# Altium schematic symbol library tm4cv006lib.SchLib: 203 symbols (part 4 of 5)
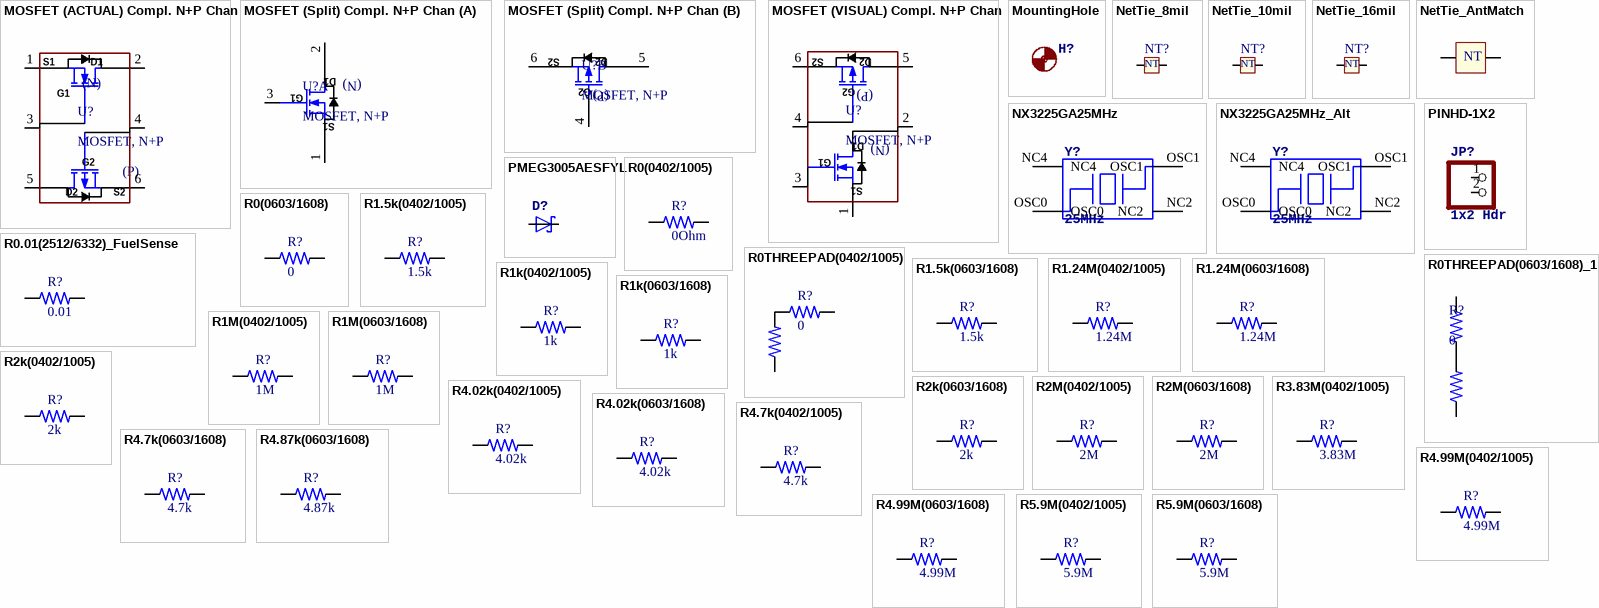
[diagram p8: symbols MOSFET (ACTUAL) Compl. N+P Chan to R5.9M(0603/1608)]

## R1k(0603/1608)
designator R?, comment 1k
1k Resistor; Manufacturer: Yageo; Manufacturer Part Number: RC0603FR-071KL; Power Rating: 100 mW; Resistance: 1 kOhms; Temperature Coefficient: 100 PPM / C; Tolerance: 1 %; Voltage Rating: 75 V; Supplier 1: Mouser; Supplier Part Number 1: 603-RC0603FR-071KL; RoHS: RoHS Compliant; Category: Thick Film Resistors - SMD; Stock 1: 507636; Pricing 1: 1=0.100, 10=0.010, 100=0.003, 1000=0.002, 5000=0.002, 10000=0.001 (USD); Height: 0.45 mm; Length: 1.6 mm; Operating Temperature Range: - 55 C to + 155 C; Package / Case: 0603 (1608 metric); Packaging: Reel; Product: Thick Film Resistors General Purpose; Series: RC; Termination Style: SMD/SMT; Type: General Purpose Chip Resistor Surface Mount; Width: 0.8 mm; Brand: Yageo; Case Code - in: 0603; Case Code - mm: 1608; Product Category: 0603 SMD Chip Resistors; Standard Pack Qty: 5000; RoHS - Mouser: Y; Minimum Order Quantity: 1; Reeling: True; ComponentLink1URL: http://www.mouser.com/ds/2/447/RC0603-272842.pdf; ComponentLink1Description: http://www.mouser.com/ds/2/447/RC0603-272842.pdf
footprint R0603_1608 (Chip Resistor, 2-Leads, Body 1.60x0.80mm, IPC Medium Density)
pins: 1, 2

## R1M(0402/1005)
designator R?, comment 1M
1M Resistor; Manufacturer: KOA Speer; Manufacturer Part Number: RK73H1ETTP1004F; Power Rating: 100 mW (1/10 W); Resistance: 1 MOhms; Temperature Coefficient: 100 PPM / C; Tolerance: 1 %; Voltage Rating: 50 V; Supplier 1: Mouser; Supplier Part Number 1: 660-RK73H1ETTP1004F; RoHS: RoHS Compliant By Exemption; Category: Thick Film Resistors - SMD; Stock 1: 388002; Pricing 1: 1=0.100, 10=0.024, 100=0.006, 1000=0.004, 10000=0.003 (USD); Features: Anti-leaching nickel barrier terminations; Height: 0.35 mm; Length: 1 mm; Operating Temperature Range: - 55 C to + 155 C; Package / Case: 0402 (1005 metric); Packaging: Reel; Product: Thick Film Resistors SMD; Series: RK73H; Termination Style: SMD/SMT; Type: Precision Thick Film Chip Resistor; Width: 0.5 mm; Brand: KOA Speer; Case Code - in: 0402; Case Code - mm: 1005; Maximum Operating Temperature: + 155 C; Minimum Operating Temperature: - 55 C; Standard Pack Qty: 10000; RoHS - Mouser: E; Minimum Order Quantity: 1; Reeling: True; ComponentLink1URL: http://www.mouser.com/ds/2/219/RK73H-5715.pdf; ComponentLink1Description: http://www.mouser.com/ds/2/219/RK73H-5715.pdf
footprint R0402_1005 (Chip Resistor, 2-Leads, Body 1.00x0.50mm, IPC Medium Density)
pins: 1, 2

## R1M(0603/1608)
designator R?, comment 1M
1M Resistor; Manufacturer: Yageo; Manufacturer Part Number: RC0603FR-071ML; Power Rating: 100 mW; Resistance: 1 MOhms; Temperature Coefficient: 100 PPM / C; Tolerance: 1 %; Voltage Rating: 75 V; Supplier 1: Mouser; Supplier Part Number 1: 603-RC0603FR-071ML; RoHS: RoHS Compliant; Category: Thick Film Resistors - SMD; Stock 1: 253110; Pricing 1: 1=0.100, 10=0.010, 100=0.003, 1000=0.002, 5000=0.002, 10000=0.001 (USD); Height: 0.45 mm; Length: 1.6 mm; Operating Temperature Range: - 55 C to + 155 C; Package / Case: 0603 (1608 metric); Packaging: Reel; Product: Thick Film Resistors General Purpose; Series: RC; Termination Style: SMD/SMT; Type: General Purpose Chip Resistor Surface Mount; Width: 0.8 mm; Brand: Yageo; Case Code - in: 0603; Case Code - mm: 1608; Product Category: 0603 SMD Chip Resistors; Standard Pack Qty: 5000; RoHS - Mouser: Y; Minimum Order Quantity: 1; Reeling: True; ComponentLink1URL: http://www.mouser.com/ds/2/447/RC0603-272842.pdf; ComponentLink1Description: http://www.mouser.com/ds/2/447/RC0603-272842.pdf
footprint R0603_1608 (Chip Resistor, 2-Leads, Body 1.60x0.80mm, IPC Medium Density)
pins: 1, 2

## R2k(0402/1005)
designator R?, comment 2k
2k Resistor; Manufacturer: KOA Speer; Manufacturer Part Number: RK73H1ETTP2001F; Power Rating: 100 mW (1/10 W); Resistance: 2 kOhms; Temperature Coefficient: 100 PPM / C; Tolerance: 1 %; Voltage Rating: 50 V; Supplier 1: Mouser; Supplier Part Number 1: 660-RK73H1ETTP2001F; RoHS: RoHS Compliant By Exemption; Category: Thick Film Resistors - SMD; Stock 1: 359804; Pricing 1: 1=0.100, 10=0.024, 100=0.006, 1000=0.004, 10000=0.003 (USD); Features: Anti-leaching nickel barrier terminations; Height: 0.35 mm; Length: 1 mm; Operating Temperature Range: - 55 C to + 155 C; Package / Case: 0402 (1005 metric); Packaging: Reel; Product: Thick Film Resistors SMD; Series: RK73H; Termination Style: SMD/SMT; Type: Precision Thick Film Chip Resistor; Width: 0.5 mm; Brand: KOA Speer; Case Code - in: 0402; Case Code - mm: 1005; Maximum Operating Temperature: + 155 C; Minimum Operating Temperature: - 55 C; Standard Pack Qty: 10000; RoHS - Mouser: E; Minimum Order Quantity: 1; Reeling: True; ComponentLink1URL: http://www.mouser.com/ds/2/219/RK73H-5715.pdf; ComponentLink1Description: http://www.mouser.com/ds/2/219/RK73H-5715.pdf
footprint R0402_1005 (Chip Resistor, 2-Leads, Body 1.00x0.50mm, IPC Medium Density)
pins: 1, 2

## R2k(0603/1608)
designator R?, comment 2k
2k Resistor; Manufacturer: Yageo; Manufacturer Part Number: RC0603FR-072KL; Power Rating: 100 mW; Resistance: 2 kOhms; Temperature Coefficient: 100 PPM / C; Tolerance: 1 %; Voltage Rating: 75 V; Supplier 1: Mouser; Supplier Part Number 1: 603-RC0603FR-072KL; RoHS: RoHS Compliant; Category: Thick Film Resistors - SMD; Stock 1: 250769; Pricing 1: 1=0.100, 10=0.010, 100=0.003, 1000=0.002, 5000=0.002, 10000=0.001 (USD); Height: 0.45 mm; Length: 1.6 mm; Operating Temperature Range: - 55 C to + 155 C; Package / Case: 0603 (1608 metric); Packaging: Reel; Product: Thick Film Resistors General Purpose; Series: RC; Termination Style: SMD/SMT; Type: General Purpose Chip Resistor Surface Mount; Width: 0.8 mm; Brand: Yageo; Case Code - in: 0603; Case Code - mm: 1608; Product Category: 0603 SMD Chip Resistors; Standard Pack Qty: 5000; RoHS - Mouser: Y; Minimum Order Quantity: 1; Reeling: True; ComponentLink1URL: http://www.mouser.com/ds/2/447/RC0603-272842.pdf; ComponentLink1Description: http://www.mouser.com/ds/2/447/RC0603-272842.pdf
footprint R0603_1608 (Chip Resistor, 2-Leads, Body 1.60x0.80mm, IPC Medium Density)
pins: 1, 2

## R2M(0402/1005)
designator R?, comment 2M
2M Resistor; Manufacturer: Yageo; Manufacturer Part Number: RC0402FR-072ML; Power Rating: 62.5 mW (1/16 W); Resistance: 2 MOhms; Temperature Coefficient: 100 PPM / C; Tolerance: 1 %; Voltage Rating: 50 V; Supplier 1: Mouser; Supplier Part Number 1: 603-RC0402FR-072ML; RoHS: RoHS Compliant; Category: Thick Film Resistors - SMD; Stock 1: 72909; Pricing 1: 1=0.100, 10=0.010, 100=0.003, 1000=0.002, 10000=0.001 (USD); Height: 0.35 mm; Length: 1 mm; Operating Temperature Range: - 55 C to + 155 C; Package / Case: 0402 (1005 metric); Packaging: Reel; Product: Thick Film Resistors General Purpose; Series: RC; Termination Style: SMD/SMT; Type: General Purpose Chip Resistor Surface Mount; Width: 0.5 mm; Brand: Yageo; Case Code - in: 0402; Case Code - mm: 1005; Standard Pack Qty: 10000; RoHS - Mouser: Y; Minimum Order Quantity: 1; Reeling: True; ComponentLink1URL: http://www.mouser.com/ds/2/447/PYu-RC0402_51_RoHS_L_6_r-8721.pdf; ComponentLink1Description: http://www.mouser.com/ds/2/447/PYu-RC0402_51_RoHS_L_6_r-8721.pdf
footprint R0402_1005 (Chip Resistor, 2-Leads, Body 1.00x0.50mm, IPC Medium Density)
pins: 1, 2

## R2M(0603/1608)
designator R?, comment 2M
2M Resistor; Manufacturer: Yageo; Manufacturer Part Number: RC0603FR-072ML; Power Rating: 100 mW; Resistance: 2 MOhms; Temperature Coefficient: 100 PPM / C; Tolerance: 1 %; Voltage Rating: 75 V; Supplier 1: Mouser; RoHS: RoHS Compliant By Exemption; Category: Thick Film Resistors - SMD; Stock 1: 866; Pricing 1: 1=0.100, 10=0.010, 100=0.003, 1000=0.002, 5000=0.002, 10000=0.001 (USD); Height: 0.45 mm; Length: 1.6 mm; Operating Temperature Range: - 55 C to + 155 C; Package / Case: 0603 (1608 metric); Packaging: Reel; Product: Thick Film Resistors General Purpose; Series: RC; Termination Style: SMD/SMT; Type: General Purpose Chip Resistor Surface Mount; Width: 0.8 mm; Brand: Yageo; Case Code - in: 0603; Case Code - mm: 1608; Product Category: 0603 SMD Chip Resistors; RoHS - Mouser: E; Minimum Order Quantity: 1; Reeling: True; ComponentLink1URL: http://www.mouser.com/ds/2/447/RC0603-272842.pdf; ComponentLink1Description: http://www.mouser.com/ds/2/447/RC0603-272842.pdf; Supplier Part Number 1: 603-RC0603FR-072ML
footprint R0603_1608 (Chip Resistor, 2-Leads, Body 1.60x0.80mm, IPC Medium Density)
pins: 1, 2

## R3.83M(0402/1005)
designator R?, comment 3.83M
3.83M Resistor; Manufacturer: Vishay; Manufacturer Part Number: CRCW04023M83FKED; Power Rating: 63 mW; Resistance: 3.83 MOhms; Temperature Coefficient: 100 PPM / K; Tolerance: 1 %; Voltage Rating: 50 V; Supplier 1: Mouser; Supplier Part Number 1: 71-CRCW04023M83FKED; RoHS: RoHS Compliant By Exemption; Category: Thick Film Resistors - SMD; Stock 1: 20381; Pricing 1: 1=0.100, 10=0.045, 100=0.026, 1000=0.018, 10000=0.006, 30000=0.005, 50000=0.004, 250000=0.003 (USD); Features: Metal glaze on high quality ceramic; Height: 0.35 mm; Length: 1 mm; Operating Temperature Range: - 55 C to + 155 C; Package / Case: 0402 (1005 metric); Packaging: Reel; Product: Thick Film Resistors SMD; Series: CRCW e3; Termination Style: SMD/SMT; Width: 0.5 mm; Brand: Vishay; Case Code - in: 0402; Case Code - mm: 1005; Standard Pack Qty: 10000; RoHS - Mouser: E; Minimum Order Quantity: 1; Reeling: True; ComponentLink1URL: http://www.mouser.com/ds/2/427/dcrcwe3-109170.pdf; ComponentLink1Description: http://www.mouser.com/ds/2/427/dcrcwe3-109170.pdf
footprint R0402_1005 (Chip Resistor, 2-Leads, Body 1.00x0.50mm, IPC Medium Density)
pins: 1, 2

## R4.02k(0402/1005)
designator R?, comment 4.02k
4.02 Resistor; Manufacturer: Panasonic; Manufacturer Part Number: ERJ-2RKF4021X; Power Rating: 100 mW; Resistance: 4.02 kOhms; Temperature Coefficient: 100 PPM / C; Tolerance: 1 %; Voltage Rating: 50 V; Qualification: AEC-Q200; RoHS: RoHS Compliant By Exemption; Category: Thick Film Resistors - SMD; Height: 0.35 mm; Length: 1 mm; Operating Temperature Range: - 55 C to + 155 C; Package / Case: 0402 (1005 metric); Packaging: Reel; Product: Thick Film Resistors SMD; Series: ERJ; Termination Style: SMD/SMT; Type: Precision Thick Film Resistors SMD; Width: 0.5 mm; Brand: Panasonic; Case Code - in: 0402; Case Code - mm: 1005; Standard Pack Qty: 10000; RoHS - Mouser: E; Minimum Order Quantity: 1; Reeling: True; ComponentLink1URL: http://www.mouser.com/ds/2/315/AOA0000C86-911473.pdf; ComponentLink1Description: http://www.mouser.com/ds/2/315/AOA0000C86-911473.pdf; Supplier 1: Mouser; Supplier Part Number 1: 667-ERJ-2RKF4021X; Stock 1: 121269; Pricing 1: 1=0.100, 10=0.015, 100=0.006, 1000=0.004, 5000=0.003, 10000=0.002 (USD)
footprint R0402_1005 (Chip Resistor, 2-Leads, Body 1.00x0.50mm, IPC Medium Density)
pins: 1, 2

## R4.02k(0603/1608)
designator R?, comment 4.02k
4.02 Resistor; Manufacturer: Yageo; Manufacturer Part Number: RC0603FR-074K02L; Power Rating: 100 mW; Resistance: 4.02 kOhms; Temperature Coefficient: 100 PPM / C; Tolerance: 1 %; Voltage Rating: 75 V; Supplier 1: Mouser; Supplier Part Number 1: 603-RC0603FR-074K02L; RoHS: RoHS Compliant; Category: Thick Film Resistors - SMD; Stock 1: 42684; Pricing 1: 1=0.100, 10=0.010, 100=0.003, 1000=0.002, 5000=0.002, 10000=0.001 (USD); Height: 0.45 mm; Length: 1.6 mm; Operating Temperature Range: - 55 C to + 155 C; Package / Case: 0603 (1608 metric); Packaging: Reel; Product: Thick Film Resistors General Purpose; Series: RC; Termination Style: SMD/SMT; Type: General Purpose Chip Resistor Surface Mount; Width: 0.8 mm; Brand: Yageo; Case Code - in: 0603; Case Code - mm: 1608; Product Category: 1206 SMD Chip Resistors; RoHS - Mouser: Y; Minimum Order Quantity: 1; Reeling: True; ComponentLink1URL: http://www.mouser.com/ds/2/447/RC0603-272842.pdf; ComponentLink1Description: http://www.mouser.com/ds/2/447/RC0603-272842.pdf
footprint R0603_1608 (Chip Resistor, 2-Leads, Body 1.60x0.80mm, IPC Medium Density)
pins: 1, 2

## R4.7k(0402/1005)
designator R?, comment 4.7k
4.7k Resistor; Manufacturer: Panasonic; Manufacturer Part Number: ERJ-2RKF4701X; Power Rating: 100 mW; Resistance: 4.7 kOhms; Temperature Coefficient: 100 PPM / C; Tolerance: 1 %; Voltage Rating: 50 V; Qualification: AEC-Q200; Supplier 1: Mouser; Supplier Part Number 1: 667-ERJ-2RKF4701X; RoHS: RoHS Compliant By Exemption; Category: Thick Film Resistors - SMD; Stock 1: 71515; Pricing 1: 1=0.100, 10=0.015, 100=0.006, 1000=0.004, 5000=0.003, 10000=0.002 (USD); Height: 0.35 mm; Length: 1 mm; Operating Temperature Range: - 55 C to + 155 C; Package / Case: 0402 (1005 metric); Packaging: Reel; Product: Thick Film Resistors SMD; Series: ERJ; Termination Style: SMD/SMT; Type: Precision Thick Film Resistors SMD; Width: 0.5 mm; Brand: Panasonic; Case Code - in: 0402; Case Code - mm: 1005; Standard Pack Qty: 10000; RoHS - Mouser: E; Minimum Order Quantity: 1; Reeling: True; ComponentLink1URL: http://www.mouser.com/ds/2/315/AOA0000C86-911473.pdf; ComponentLink1Description: http://www.mouser.com/ds/2/315/AOA0000C86-911473.pdf; Supplier 2: Digi-Key; Supplier Part Number 2: P4.70KLCT-ND
footprint R0402_1005 (Chip Resistor, 2-Leads, Body 1.00x0.50mm, IPC Medium Density)
pins: 1, 2

## R4.7k(0603/1608)
designator R?, comment 4.7k
4.7k Resistor; Manufacturer: Yageo; Manufacturer Part Number: RC0603FR-074K7L; Power Rating: 100 mW; Resistance: 4.7 kOhms; Temperature Coefficient: 100 PPM / C; Tolerance: 1 %; Voltage Rating: 75 V; Supplier 1: Mouser; Supplier Part Number 1: 603-RC0603FR-074K7L; RoHS: RoHS Compliant; Category: Thick Film Resistors - SMD; Stock 1: 542464; Pricing 1: 1=0.100, 10=0.010, 100=0.003, 1000=0.002, 5000=0.002, 10000=0.001 (USD); Height: 0.45 mm; Length: 1.6 mm; Operating Temperature Range: - 55 C to + 155 C; Package / Case: 0603 (1608 metric); Packaging: Reel; Product: Thick Film Resistors General Purpose; Series: RC; Termination Style: SMD/SMT; Type: General Purpose Chip Resistor Surface Mount; Width: 0.8 mm; Brand: Yageo; Case Code - in: 0603; Case Code - mm: 1608; Product Category: 0603 SMD Chip Resistors; Standard Pack Qty: 5000; RoHS - Mouser: Y; Minimum Order Quantity: 1; Reeling: True; ComponentLink1URL: http://www.mouser.com/ds/2/447/RC0603-272842.pdf; ComponentLink1Description: http://www.mouser.com/ds/2/447/RC0603-272842.pdf
footprint R0603_1608 (Chip Resistor, 2-Leads, Body 1.60x0.80mm, IPC Medium Density)
pins: 1, 2

## R4.87k(0603/1608)
designator R?, comment 4.87k
4.87k Resistor; Manufacturer: Yageo; Manufacturer Part Number: RC0603FR-074K87L; Power Rating: 100 mW; Resistance: 4.87 kOhms; Temperature Coefficient: 100 PPM / C; Tolerance: 1 %; Voltage Rating: 75 V; Supplier 1: Mouser; Supplier Part Number 1: 603-RC0603FR-074K87L; RoHS: RoHS Compliant; Category: Thick Film Resistors - SMD; Stock 1: 38273; Pricing 1: 1=0.100, 10=0.010, 100=0.003, 1000=0.002, 5000=0.002, 10000=0.001 (USD); Height: 0.45 mm; Length: 1.6 mm; Operating Temperature Range: - 55 C to + 155 C; Package / Case: 0603 (1608 metric); Packaging: Reel; Product: Thick Film Resistors General Purpose; Series: RC; Termination Style: SMD/SMT; Type: General Purpose Chip Resistor Surface Mount; Width: 0.8 mm; Brand: Yageo; Case Code - in: 0603; Case Code - mm: 1608; RoHS - Mouser: Y; Minimum Order Quantity: 1; Reeling: True; ComponentLink1URL: http://www.mouser.com/ds/2/447/RC0603-272842.pdf; ComponentLink1Description: http://www.mouser.com/ds/2/447/RC0603-272842.pdf
footprint R0603_1608 (Chip Resistor, 2-Leads, Body 1.60x0.80mm, IPC Medium Density)
pins: 1, 2

## R4.99M(0402/1005)
designator R?, comment 4.99M
4.99M Resistor; Manufacturer: Yageo; Manufacturer Part Number: RC0402FR-074M99L; Power Rating: 62.5 mW (1/16 W); Resistance: 4.99 MOhms; Temperature Coefficient: 100 PPM / C; Tolerance: 1 %; Voltage Rating: 50 V; Supplier 1: Mouser; Supplier Part Number 1: 603-RC0402FR-074M99L; RoHS: RoHS Compliant; Category: Thick Film Resistors - SMD; Stock 1: 23985; Pricing 1: 1=0.100, 10=0.010, 100=0.003, 1000=0.002, 10000=0.001 (USD); Height: 0.35 mm; Length: 1 mm; Operating Temperature Range: - 55 C to + 155 C; Package / Case: 0402 (1005 metric); Packaging: Reel; Product: Thick Film Resistors General Purpose; Series: RC; Termination Style: SMD/SMT; Type: General Purpose Chip Resistor Surface Mount; Width: 0.5 mm; Brand: Yageo; Case Code - in: 0402; Case Code - mm: 1005; Standard Pack Qty: 10000; RoHS - Mouser: Y; Minimum Order Quantity: 1; Reeling: True; ComponentLink1URL: http://www.mouser.com/ds/2/447/PYu-RC0402_51_RoHS_L_6_r-8721.pdf; ComponentLink1Description: http://www.mouser.com/ds/2/447/PYu-RC0402_51_RoHS_L_6_r-8721.pdf
footprint R0402_1005 (Chip Resistor, 2-Leads, Body 1.00x0.50mm, IPC Medium Density)
pins: 1, 2

## R4.99M(0603/1608)
designator R?, comment 4.99M
4.99M Resistor; Manufacturer: Yageo; Manufacturer Part Number: RC0603FR-074M99L; Power Rating: 100 mW; Resistance: 4.99 MOhms; Temperature Coefficient: 100 PPM / C; Tolerance: 1 %; Voltage Rating: 75 V; Supplier 1: Mouser; RoHS: RoHS Compliant; Category: Thick Film Resistors - SMD; Stock 1: 13735; Pricing 1: 1=0.100, 10=0.010, 100=0.003, 1000=0.002, 5000=0.002, 10000=0.001 (USD); Height: 0.45 mm; Length: 1.6 mm; Operating Temperature Range: - 55 C to + 155 C; Package / Case: 0603 (1608 metric); Packaging: Reel; Product: Thick Film Resistors General Purpose; Series: RC; Termination Style: SMD/SMT; Type: General Purpose Chip Resistor Surface Mount; Width: 0.8 mm; Brand: Yageo; Case Code - in: 0603; Case Code - mm: 1608; Product Category: 0603 SMD Chip Resistors; Standard Pack Qty: 5000; RoHS - Mouser: Y; Minimum Order Quantity: 1; Reeling: True; ComponentLink1URL: http://www.mouser.com/ds/2/447/RC0603-272842.pdf; ComponentLink1Description: http://www.mouser.com/ds/2/447/RC0603-272842.pdf; Supplier Part Number 1: 603-RC0603FR-074M99L
footprint R0603_1608 (Chip Resistor, 2-Leads, Body 1.60x0.80mm, IPC Medium Density)
pins: 1, 2

## R5.9M(0402/1005)
designator R?, comment 5.9M
5.9M Resistor; Manufacturer: Vishay / Dale; Manufacturer Part Number: CRCW04025M90FKED; Power Rating: 63 mW; Resistance: 5.9 MOhms; Temperature Coefficient: 100 PPM / K; Tolerance: 1 %; Voltage Rating: 50 V; Supplier 1: Mouser; Supplier Part Number 1: 71-CRCW04025M90FKED; RoHS: RoHS Compliant By Exemption; Category: Thick Film Resistors - SMD; Stock 1: 9573; Pricing 1: 1=0.100, 10=0.044, 100=0.021, 1000=0.015, 10000=0.005, 30000=0.004, 50000=0.003 (USD); Features: Metal glaze on high quality ceramic; Height: 0.35 mm; Length: 1 mm; Operating Temperature Range: - 55 C to + 155 C; Package / Case: 0402 (1005 metric); Packaging: Reel; Product: Thick Film Resistors SMD; Series: CRCW; Termination Style: SMD/SMT; Width: 0.5 mm; Brand: Vishay / Dale; Case Code - in: 0402; Case Code - mm: 1005; Standard Pack Qty: 10000; RoHS - Mouser: E; Minimum Order Quantity: 1; Reeling: True; ComponentLink1URL: http://www.mouser.com/ds/2/427/dcrcwe3-109170.pdf; ComponentLink1Description: http://www.mouser.com/ds/2/427/dcrcwe3-109170.pdf
footprint R0402_1005 (Chip Resistor, 2-Leads, Body 1.00x0.50mm, IPC Medium Density)
pins: 1, 2

## R5.9M(0603/1608)
designator R?, comment 5.9M
5.9M Resistor; Manufacturer: Vishay / Dale; Manufacturer Part Number: CRCW06035M90FKEA; Power Rating: 100 mW; Resistance: 5.9 MOhms; Temperature Coefficient: 100 PPM / K; Tolerance: 1 %; Voltage Rating: 75 V; Supplier 1: Mouser; RoHS: RoHS Compliant By Exemption; Category: Thick Film Resistors - SMD; Stock 1: 13186; Pricing 1: 1=0.100, 10=0.044, 100=0.026, 500=0.021, 1000=0.018, 5000=0.006, 25000=0.005, 50000=0.004 (USD); Height: 0.45 mm; Length: 1.55 mm; Operating Temperature Range: - 55 C to + 155 C; Package / Case: 0603 (1608 metric); Packaging: Reel; Product: Thick Film Resistors SMD; Series: CRCW; Termination Style: SMD/SMT; Width: 0.85 mm; Brand: Vishay / Dale; Case Code - in: 0603; Case Code - mm: 1608; Product Category: 0603 Thick Film Chip Resistors; RoHS - Mouser: E; Minimum Order Quantity: 1; Reeling: True; ComponentLink1URL: http://www.mouser.com/ds/2/427/dcrcwe3-109170.pdf; ComponentLink1Description: http://www.mouser.com/ds/2/427/dcrcwe3-109170.pdf; Supplier Part Number 1: 71-CRCW06035M90FKEA
footprint R0603_1608 (Chip Resistor, 2-Leads, Body 1.60x0.80mm, IPC Medium Density)
pins: 1, 2

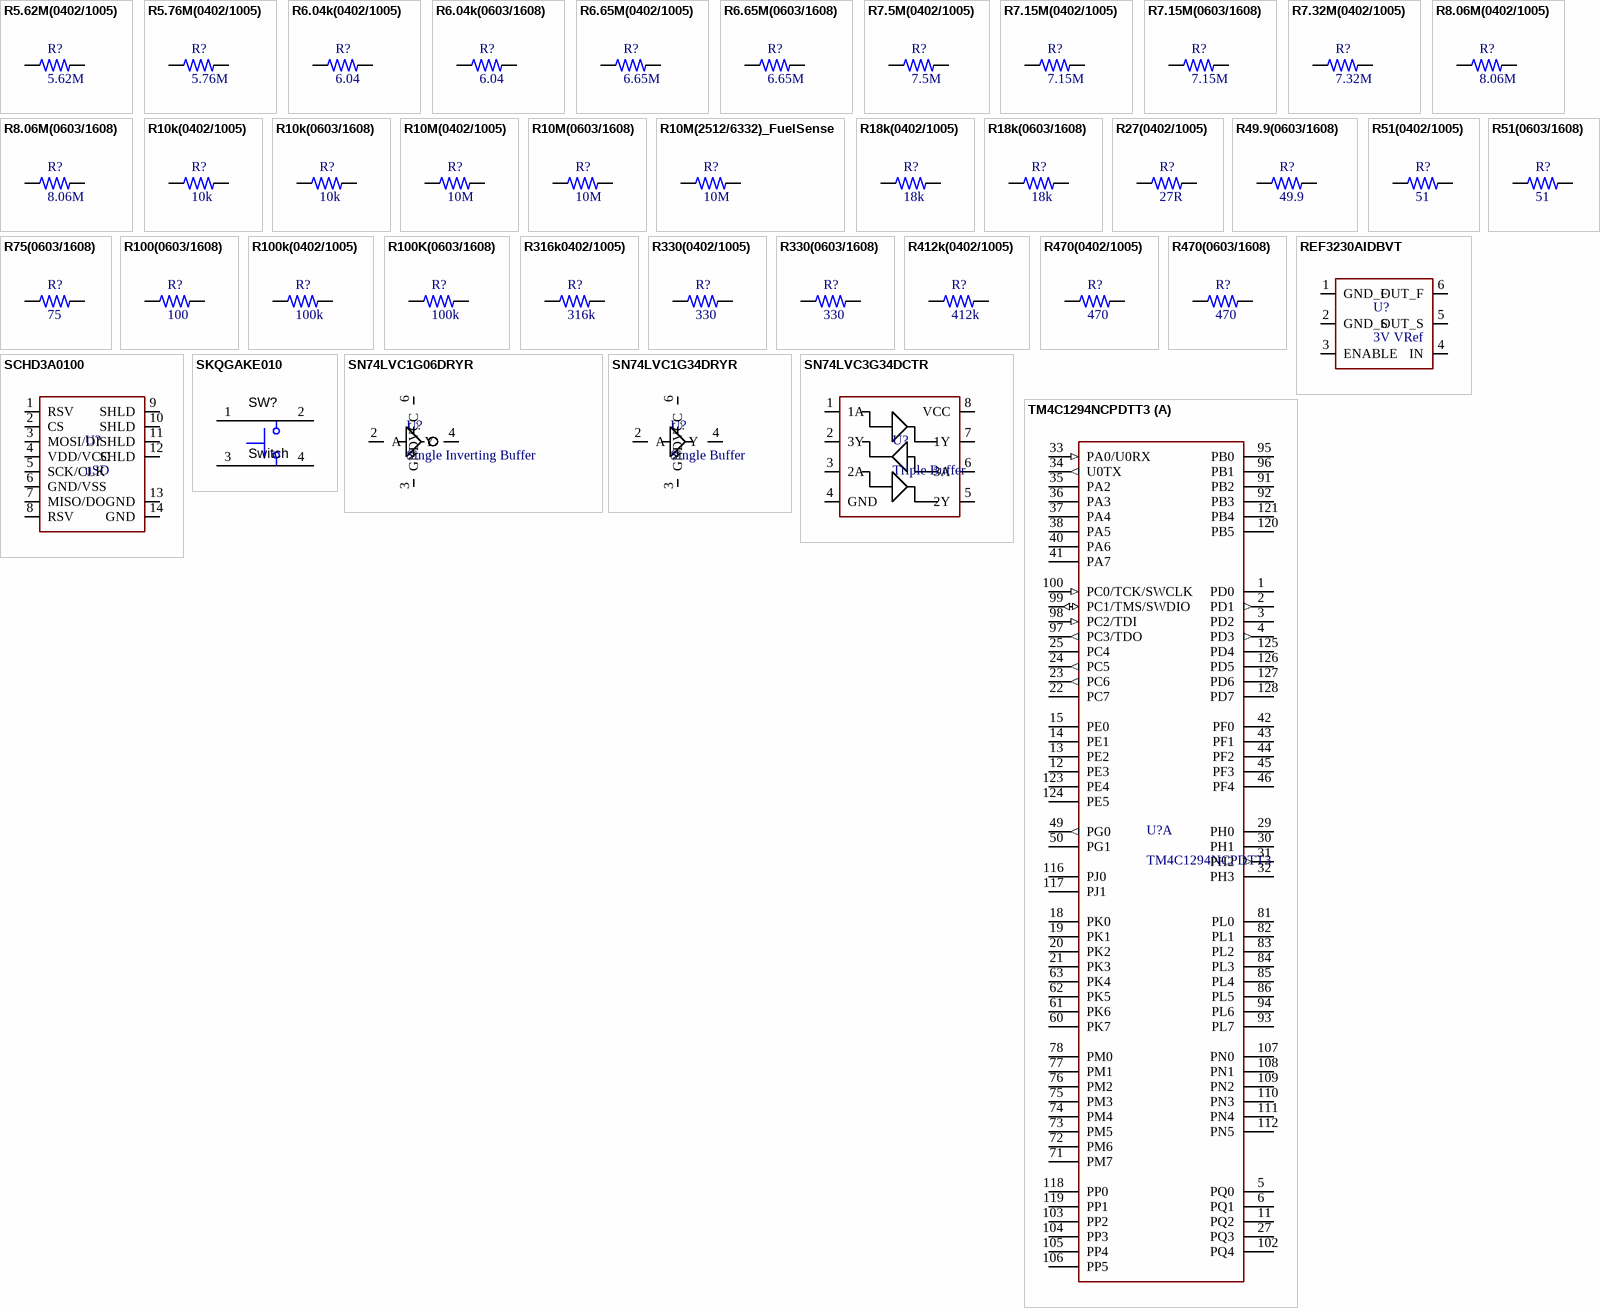
[diagram p4: symbols R5.62M(0402/1005) to TM4C1294NCPDTT3]

## R5.62M(0402/1005)
designator R?, comment 5.62M
5.62M Resistor; Manufacturer: Vishay; Manufacturer Part Number: CRCW04025M62FKED; Power Rating: 63 mW; Resistance: 5.62 MOhms; Temperature Coefficient: 100 PPM / K; Tolerance: 1 %; Voltage Rating: 50 V; Supplier 1: Mouser; Supplier Part Number 1: 71-CRCW04025M62FKED; RoHS: RoHS Compliant By Exemption; Category: Thick Film Resistors - SMD; Stock 1: 8126; Pricing 1: 1=0.100, 10=0.044, 100=0.021, 1000=0.015, 10000=0.009, 30000=0.003 (USD); Features: Metal glaze on high quality ceramic; Height: 0.35 mm; Length: 1 mm; Operating Temperature Range: - 55 C to + 155 C; Package / Case: 0402 (1005 metric); Packaging: Reel; Product: Thick Film Resistors SMD; Series: CRCW e3; Termination Style: SMD/SMT; Width: 0.5 mm; Brand: Vishay; Case Code - in: 0402; Case Code - mm: 1005; Standard Pack Qty: 10000; RoHS - Mouser: E; Minimum Order Quantity: 1; Reeling: True; ComponentLink1URL: http://www.mouser.com/ds/2/427/dcrcwe3-109170.pdf; ComponentLink1Description: http://www.mouser.com/ds/2/427/dcrcwe3-109170.pdf
footprint R0402_1005 (Chip Resistor, 2-Leads, Body 1.00x0.50mm, IPC Medium Density)
pins: 1, 2

## R5.76M(0402/1005)
designator R?, comment 5.76M
5.76M Resistor; Manufacturer: Vishay; Manufacturer Part Number: CRCW04025M76FKED; Power Rating: 63 mW; Resistance: 5.76 MOhms; Temperature Coefficient: 100 PPM / K; Tolerance: 1 %; Voltage Rating: 50 V; Supplier 1: Mouser; Supplier Part Number 1: 71-CRCW04025M76FKED; RoHS: RoHS Compliant By Exemption; Category: Thick Film Resistors - SMD; Stock 1: 24576; Pricing 1: 1=0.100, 10=0.044, 100=0.021, 1000=0.015, 10000=0.005, 30000=0.004, 50000=0.003 (USD); Features: Metal glaze on high quality ceramic; Height: 0.35 mm; Length: 1 mm; Operating Temperature Range: - 55 C to + 155 C; Package / Case: 0402 (1005 metric); Packaging: Reel; Product: Thick Film Resistors SMD; Series: CRCW e3; Termination Style: SMD/SMT; Width: 0.5 mm; Brand: Vishay; Case Code - in: 0402; Case Code - mm: 1005; Standard Pack Qty: 10000; RoHS - Mouser: E; Minimum Order Quantity: 1; Reeling: True; ComponentLink1URL: http://www.mouser.com/ds/2/427/dcrcwe3-109170.pdf; ComponentLink1Description: http://www.mouser.com/ds/2/427/dcrcwe3-109170.pdf
footprint R0402_1005 (Chip Resistor, 2-Leads, Body 1.00x0.50mm, IPC Medium Density)
pins: 1, 2

## R6.04k(0402/1005)
designator R?, comment 6.04
6.04k Resistor; Manufacturer: Panasonic; Manufacturer Part Number: ERJ-2RKF6041X; Power Rating: 100 mW; Resistance: 6.04 kOhms; Temperature Coefficient: 100 PPM / C; Tolerance: 1 %; Voltage Rating: 50 V; Qualification: AEC-Q200; RoHS: RoHS Compliant By Exemption; Category: Thick Film Resistors - SMD; Height: 0.35 mm; Length: 1 mm; Operating Temperature Range: - 55 C to + 155 C; Package / Case: 0402 (1005 metric); Packaging: Reel; Product: Thick Film Resistors SMD; Series: ERJ; Termination Style: SMD/SMT; Type: Precision Thick Film Resistors SMD; Width: 0.5 mm; Brand: Panasonic; Case Code - in: 0402; Case Code - mm: 1005; Standard Pack Qty: 10000; RoHS - Mouser: E; Minimum Order Quantity: 1; Reeling: True; ComponentLink1URL: http://www.mouser.com/ds/2/315/AOA0000C86-911473.pdf; ComponentLink1Description: http://www.mouser.com/ds/2/315/AOA0000C86-911473.pdf; Supplier 1: Mouser; Supplier Part Number 1: 667-ERJ-2RKF6041X; Stock 1: 67846; Pricing 1: 1=0.100, 10=0.015, 100=0.006, 1000=0.004, 5000=0.003, 10000=0.002 (USD)
footprint R0402_1005 (Chip Resistor, 2-Leads, Body 1.00x0.50mm, IPC Medium Density)
pins: 1, 2

## R6.04k(0603/1608)
designator R?, comment 6.04
6.04k Resistor; Manufacturer: Yageo; Manufacturer Part Number: RC0603FR-076K04L; Power Rating: 100 mW; Resistance: 6.04 kOhms; Temperature Coefficient: 100 PPM / C; Tolerance: 1 %; Voltage Rating: 75 V; Supplier 1: Mouser; Supplier Part Number 1: 603-RC0603FR-076K04L; RoHS: RoHS Compliant; Category: Thick Film Resistors - SMD; Stock 1: 76865; Pricing 1: 1=0.100, 10=0.010, 100=0.003, 1000=0.002, 5000=0.002, 10000=0.001 (USD); Height: 0.45 mm; Length: 1.6 mm; Operating Temperature Range: - 55 C to + 155 C; Package / Case: 0603 (1608 metric); Packaging: Reel; Product: Thick Film Resistors General Purpose; Series: RC; Termination Style: SMD/SMT; Type: General Purpose Chip Resistor Surface Mount; Width: 0.8 mm; Brand: Yageo; Case Code - in: 0603; Case Code - mm: 1608; Product Category: 0603 SMD Chip Resistors; Standard Pack Qty: 5000; RoHS - Mouser: Y; Minimum Order Quantity: 1; Reeling: True; ComponentLink1URL: http://www.mouser.com/ds/2/447/RC0603-272842.pdf; ComponentLink1Description: http://www.mouser.com/ds/2/447/RC0603-272842.pdf
footprint R0603_1608 (Chip Resistor, 2-Leads, Body 1.60x0.80mm, IPC Medium Density)
pins: 1, 2

## R6.65M(0402/1005)
designator R?, comment 6.65M
6.65M Resistor; Manufacturer: Vishay / Dale; Manufacturer Part Number: CRCW04026M65FKED; Power Rating: 63 mW; Resistance: 6.65 MOhms; Temperature Coefficient: 100 PPM / K; Tolerance: 1 %; Voltage Rating: 50 V; Supplier 1: Mouser; Supplier Part Number 1: 71-CRCW04026M65FKED; RoHS: RoHS Compliant By Exemption; Category: Thick Film Resistors - SMD; Stock 1: 27940; Pricing 1: 1=0.100, 10=0.051, 100=0.024, 1000=0.017, 10000=0.006, 30000=0.004, 50000=0.003 (USD); Features: Metal glaze on high quality ceramic; Height: 0.35 mm; Length: 1 mm; Operating Temperature Range: - 55 C to + 155 C; Package / Case: 0402 (1005 metric); Packaging: Reel; Product: Thick Film Resistors SMD; Series: CRCW; Termination Style: SMD/SMT; Width: 0.5 mm; Brand: Vishay / Dale; Case Code - in: 0402; Case Code - mm: 1005; Standard Pack Qty: 10000; RoHS - Mouser: E; Minimum Order Quantity: 1; Reeling: True; ComponentLink1URL: http://www.mouser.com/ds/2/427/dcrcwe3-109170.pdf; ComponentLink1Description: http://www.mouser.com/ds/2/427/dcrcwe3-109170.pdf
footprint R0402_1005 (Chip Resistor, 2-Leads, Body 1.00x0.50mm, IPC Medium Density)
pins: 1, 2

## R6.65M(0603/1608)
designator R?, comment 6.65M
6.65M Resistor; Manufacturer: KOA Speer; Manufacturer Part Number: RK73H1JTTDD6654F; Power Rating: 100 mW; Resistance: 6.65 MOhms; Temperature Coefficient: 200 PPM / C; Tolerance: 1 %; Voltage Rating: 50 V; Supplier 1: Mouser; RoHS: RoHS Compliant By Exemption; Category: Thick Film Resistors - SMD; Stock 1: 28575; Pricing 1: 1=0.100, 10=0.015, 100=0.008, 500=0.006, 1000=0.004, 5000=0.003, 10000=0.002 (USD); Height: 0.45 mm; Length: 1.6 mm; Operating Temperature Range: - 55 C to + 155 C; Package / Case: 0603 (1608 metric); Packaging: Reel; Product: Thick Film Resistors SMD; Series: RK73H; Termination Style: SMD/SMT; Width: 0.8 mm; Brand: KOA Speer; Case Code - in: 0603; Case Code - mm: 1608; Product Category: 0603 SMD Thick Film Chip Resistors; Standard Pack Qty: 10000; RoHS - Mouser: E; Minimum Order Quantity: 1; Reeling: True; ComponentLink1URL: http://www.mouser.com/ds/2/219/RK73H-5715.pdf; ComponentLink1Description: http://www.mouser.com/ds/2/219/RK73H-5715.pdf; Supplier Part Number 1: 660-RK73H1JTTDD6654F
footprint R0603_1608 (Chip Resistor, 2-Leads, Body 1.60x0.80mm, IPC Medium Density)
pins: 1, 2

## R7.5M(0402/1005)
designator R?, comment 7.5M
7.5M Resistor; Manufacturer: Panasonic; Manufacturer Part Number: ERJ-2GEJ755X; Power Rating: 100 mW; Resistance: 7.5 MOhms; Temperature Coefficient: - 400 PPM / C, + 150 PPM / C; Tolerance: 5 %; Voltage Rating: 50 V; Qualification: AEC-Q200; Supplier 1: Mouser; Supplier Part Number 1: 667-ERJ-2GEJ755X; RoHS: RoHS Compliant By Exemption; Category: Thick Film Resistors - SMD; Stock 1: 68025; Pricing 1: 1=0.140, 10=0.013, 100=0.005, 1000=0.004, 5000=0.002, 10000=0.002 (USD); Height: 0.35 mm; Length: 1 mm; Operating Temperature Range: - 55 C to + 155 C; Package / Case: 0402 (1005 metric); Packaging: Reel; Product: Thick Film Resistors SMD; Series: ERJ; Termination Style: SMD/SMT; Type: Thick Film Resistors SMD; Width: 0.5 mm; Brand: Panasonic; Case Code - in: 0402; Case Code - mm: 1005; Standard Pack Qty: 10000; RoHS - Mouser: E; Minimum Order Quantity: 1; Reeling: True; ComponentLink1URL: http://www.mouser.com/ds/2/315/AOA0000C84-947596.pdf; ComponentLink1Description: http://www.mouser.com/ds/2/315/AOA0000C84-947596.pdf
footprint R0402_1005 (Chip Resistor, 2-Leads, Body 1.00x0.50mm, IPC Medium Density)
pins: 1, 2

## R7.15M(0402/1005)
designator R?, comment 7.15M
7.15M Resistor; Manufacturer: Vishay / Dale; Manufacturer Part Number: CRCW04027M15FKED; Power Rating: 63 mW; Resistance: 7.15 MOhms; Temperature Coefficient: 100 PPM / K; Tolerance: 1 %; Voltage Rating: 50 V; Supplier 1: Mouser; Supplier Part Number 1: 71-CRCW04027M15FKED; RoHS: RoHS Compliant By Exemption; Category: Thick Film Resistors - SMD; Stock 1: 10880; Pricing 1: 1=0.100, 10=0.044, 100=0.021, 1000=0.015, 10000=0.005, 30000=0.004, 50000=0.003 (USD); Features: Metal glaze on high quality ceramic; Height: 0.35 mm; Length: 1 mm; Operating Temperature Range: - 55 C to + 155 C; Package / Case: 0402 (1005 metric); Packaging: Reel; Product: Thick Film Resistors SMD; Series: CRCW; Termination Style: SMD/SMT; Width: 0.5 mm; Brand: Vishay / Dale; Case Code - in: 0402; Case Code - mm: 1005; Standard Pack Qty: 10000; RoHS - Mouser: E; Minimum Order Quantity: 1; Reeling: True; ComponentLink1URL: http://www.mouser.com/ds/2/427/dcrcwe3-109170.pdf; ComponentLink1Description: http://www.mouser.com/ds/2/427/dcrcwe3-109170.pdf
footprint R0402_1005 (Chip Resistor, 2-Leads, Body 1.00x0.50mm, IPC Medium Density)
pins: 1, 2

## R7.15M(0603/1608)
designator R?, comment 7.15M
7.15M Resistor; Manufacturer: Vishay / Dale; Manufacturer Part Number: CRCW06037M15FKEA; Power Rating: 100 mW; Resistance: 7.15 MOhms; Temperature Coefficient: 100 PPM / K; Tolerance: 1 %; Voltage Rating: 75 V; Supplier 1: Mouser; RoHS: RoHS Compliant By Exemption; Category: Thick Film Resistors - SMD; Stock 1: 26258; Pricing 1: 1=0.100, 10=0.044, 100=0.026, 500=0.021, 1000=0.018, 5000=0.006, 25000=0.005, 50000=0.004 (USD); Height: 0.45 mm; Length: 1.55 mm; Operating Temperature Range: - 55 C to + 155 C; Package / Case: 0603 (1608 metric); Packaging: Reel; Product: Thick Film Resistors SMD; Series: CRCW; Termination Style: SMD/SMT; Width: 0.85 mm; Brand: Vishay / Dale; Case Code - in: 0603; Case Code - mm: 1608; Product Category: 0603 Thick Film Chip Resistors; Standard Pack Qty: 5000; RoHS - Mouser: E; Minimum Order Quantity: 1; Reeling: True; ComponentLink1URL: http://www.mouser.com/ds/2/427/dcrcwe3-109170.pdf; ComponentLink1Description: http://www.mouser.com/ds/2/427/dcrcwe3-109170.pdf; Supplier Part Number 1: 71-CRCW0603-7.15M-E3
footprint R0603_1608 (Chip Resistor, 2-Leads, Body 1.60x0.80mm, IPC Medium Density)
pins: 1, 2

## R7.32M(0402/1005)
designator R?, comment 7.32M
7.32M Resistor; Manufacturer: Vishay; Manufacturer Part Number: CRCW04027M32FKED; Voltage Rating: 50; Resistance: 7.32 MOhm; Power Rating: 63; Tolerance: 1%; Supplier 1: Mouser; Supplier Part Number 1: 71-CRCW04027M32FKED; Stock 1: 26103; Pricing 1: 1=0.1, 10=0.044, 50=0.044, 100=0.021, 1000=0.015, 10000=0.005 (USD); Mount: Surface Mount; Case/Package: 0402; Case Code (Imperial): 0402; Case Code (Metric): 1005; Min Operating Temperature: -55; Max Operating Temperature: 155; Packaging: Tape and Reel; Package Quantity: 10000; Composition: Thick Film; Length: 1; Weight: 2.3E-05; Height: 0.35; Width: 0.5; REACH SVHC: Unknown; ComponentLink1URL: https://datasheet.ciiva.com/7748/1697337-7748645.pdf; ComponentLink1Description: https://datasheet.ciiva.com/7748/1697337-7748645.pdf; ComponentLink2URL: https://datasheet.ciiva.com/7748/1697337-7748646.pdf; ComponentLink2Description: https://datasheet.ciiva.com/7748/1697337-7748646.pdf; ComponentLink3URL: https://datasheet.ciiva.com/2556/dcrcwe3-2556855.pdf; ComponentLink3Description: https://datasheet.ciiva.com/2556/dcrcwe3-2556855.pdf; Category: Thick Film Resistors - SMD
footprint R0402_1005 (Chip Resistor, 2-Leads, Body 1.00x0.50mm, IPC Medium Density)
pins: 1, 2

## R8.06M(0402/1005)
designator R?, comment 8.06M
8.06M Resistor; Manufacturer: Vishay / Dale; Manufacturer Part Number: CRCW04028M06FKED; Power Rating: 63 mW; Resistance: 8.06 MOhms; Temperature Coefficient: 100 PPM / K; Tolerance: 1 %; Voltage Rating: 50 V; Supplier 1: Mouser; Supplier Part Number 1: 71-CRCW04028M06FKED; RoHS: RoHS Compliant By Exemption; Category: Thick Film Resistors - SMD; Stock 1: 25443; Pricing 1: 1=0.100, 10=0.044, 100=0.021, 1000=0.015, 10000=0.005, 30000=0.004, 50000=0.003 (USD); Features: Metal glaze on high quality ceramic; Height: 0.35 mm; Length: 1 mm; Operating Temperature Range: - 55 C to + 155 C; Package / Case: 0402 (1005 metric); Packaging: Reel; Product: Thick Film Resistors SMD; Series: CRCW; Termination Style: SMD/SMT; Width: 0.5 mm; Brand: Vishay / Dale; Case Code - in: 0402; Case Code - mm: 1005; Standard Pack Qty: 10000; RoHS - Mouser: E; Minimum Order Quantity: 1; Reeling: True; ComponentLink1URL: http://www.mouser.com/ds/2/427/dcrcwe3-109170.pdf; ComponentLink1Description: http://www.mouser.com/ds/2/427/dcrcwe3-109170.pdf
footprint R0402_1005 (Chip Resistor, 2-Leads, Body 1.00x0.50mm, IPC Medium Density)
pins: 1, 2

## R8.06M(0603/1608)
designator R?, comment 8.06M
8.06M Resistor; Manufacturer: Vishay / Dale; Manufacturer Part Number: CRCW06038M06FKEA; Power Rating: 100 mW; Resistance: 8.06 MOhms; Temperature Coefficient: 100 PPM / K; Tolerance: 1 %; Voltage Rating: 75 V; Supplier 1: Mouser; RoHS: RoHS Compliant By Exemption; Category: Thick Film Resistors - SMD; Stock 1: 31495; Pricing 1: 1=0.100, 10=0.044, 100=0.026, 500=0.021, 1000=0.018, 5000=0.006, 25000=0.005, 50000=0.004 (USD); Height: 0.45 mm; Length: 1.55 mm; Operating Temperature Range: - 55 C to + 155 C; Package / Case: 0603 (1608 metric); Packaging: Reel; Product: Thick Film Resistors SMD; Series: CRCW; Termination Style: SMD/SMT; Width: 0.85 mm; Brand: Vishay / Dale; Case Code - in: 0603; Case Code - mm: 1608; Product Category: 0603 Thick Film Chip Resistors; Standard Pack Qty: 5000; RoHS - Mouser: E; Minimum Order Quantity: 1; Reeling: True; ComponentLink1URL: http://www.mouser.com/ds/2/427/dcrcwe3-109170.pdf; ComponentLink1Description: http://www.mouser.com/ds/2/427/dcrcwe3-109170.pdf; Supplier Part Number 1: 71-CRCW0603-8.06M-E3
footprint R0603_1608 (Chip Resistor, 2-Leads, Body 1.60x0.80mm, IPC Medium Density)
pins: 1, 2

## R10k(0402/1005)
designator R?, comment 10k
10K Resistor; Manufacturer: KOA Speer; Manufacturer Part Number: RK73H1ETTP1002F; Power Rating: 100 mW (1/10 W); Resistance: 10 kOhms; Temperature Coefficient: 100 PPM / C; Tolerance: 1 %; Voltage Rating: 50 V; Supplier 1: Mouser; Supplier Part Number 1: 660-RK73H1ETTP1002F; RoHS: RoHS Compliant By Exemption; Category: Thick Film Resistors - SMD; Stock 1: 901003; Pricing 1: 1=0.100, 10=0.024, 100=0.006, 1000=0.004, 10000=0.003 (USD); Features: Anti-leaching nickel barrier terminations; Height: 0.35 mm; Length: 1 mm; Operating Temperature Range: - 55 C to + 155 C; Package / Case: 0402 (1005 metric); Packaging: Reel; Product: Thick Film Resistors SMD; Series: RK73H; Termination Style: SMD/SMT; Type: Precision Thick Film Chip Resistor; Width: 0.5 mm; Brand: KOA Speer; Case Code - in: 0402; Case Code - mm: 1005; Maximum Operating Temperature: + 155 C; Minimum Operating Temperature: - 55 C; Standard Pack Qty: 10000; RoHS - Mouser: E; Minimum Order Quantity: 1; Reeling: True; ComponentLink1URL: http://www.mouser.com/ds/2/219/RK73H-5715.pdf; ComponentLink1Description: http://www.mouser.com/ds/2/219/RK73H-5715.pdf
footprint R0402_1005 (Chip Resistor, 2-Leads, Body 1.00x0.50mm, IPC Medium Density)
pins: 1, 2

## R10k(0603/1608)
designator R?, comment 10k
10K Resistor; Manufacturer: Yageo; Manufacturer Part Number: RC0603FR-0710KL; Power Rating: 100 mW; Resistance: 10 kOhms; Temperature Coefficient: 100 PPM / C; Tolerance: 1 %; Voltage Rating: 75 V; Supplier 1: Mouser; Supplier Part Number 1: 603-RC0603FR-0710KL; RoHS: RoHS Compliant; Category: Thick Film Resistors - SMD; Stock 1: 1284333; Pricing 1: 1=0.100, 10=0.010, 100=0.003, 1000=0.002, 5000=0.002, 10000=0.001 (USD); Height: 0.45 mm; Length: 1.6 mm; Operating Temperature Range: - 55 C to + 155 C; Package / Case: 0603 (1608 metric); Packaging: Reel; Product: Thick Film Resistors General Purpose; Series: RC; Termination Style: SMD/SMT; Type: General Purpose Chip Resistor Surface Mount; Width: 0.8 mm; Brand: Yageo; Case Code - in: 0603; Case Code - mm: 1608; Product Category: 0603 SMD Chip Resistors; Standard Pack Qty: 5000; RoHS - Mouser: Y; Minimum Order Quantity: 1; Reeling: True; ComponentLink1URL: http://www.mouser.com/ds/2/447/RC0603-272842.pdf; ComponentLink1Description: http://www.mouser.com/ds/2/447/RC0603-272842.pdf
footprint R0603_1608 (Chip Resistor, 2-Leads, Body 1.60x0.80mm, IPC Medium Density)
pins: 1, 2

## R10M(0402/1005)
designator R?, comment 10M
10M Resistor; Manufacturer: KOA Speer; Manufacturer Part Number: RK73H1ETTP1005F; Power Rating: 63 mW; Resistance: 10 MOhms; Temperature Coefficient: 200 PPM / C; Tolerance: 1 %; Voltage Rating: 50 V; Qualification: Commercial; Supplier 1: Mouser; Supplier Part Number 1: 660-RK73H1ETTP1005F; RoHS: RoHS Compliant By Exemption; Category: Thick Film Resistors - SMD; Stock 1: 52566; Pricing 1: 1=0.100, 10=0.024, 100=0.006, 1000=0.004, 10000=0.003 (USD); Features: Anti-leaching nickel barrier terminations; Height: 0.35 mm; Length: 1 mm; Operating Temperature Range: - 55 C to + 155 C; Package / Case: 0402 (1005 metric); Packaging: Reel; Product: Thick Film Resistors SMD; Series: RK73H; Termination Style: SMD/SMT; Width: 0.5 mm; Brand: KOA Speer; Case Code - in: 0402; Case Code - mm: 1005; Standard Pack Qty: 10000; RoHS - Mouser: E; Minimum Order Quantity: 1; Reeling: True; ComponentLink1URL: http://www.mouser.com/ds/2/219/RK73H-5715.pdf; ComponentLink1Description: http://www.mouser.com/ds/2/219/RK73H-5715.pdf
footprint R0402_1005 (Chip Resistor, 2-Leads, Body 1.00x0.50mm, IPC Medium Density)
pins: 1, 2

## R10M(0603/1608)
designator R?, comment 10M
10M Resistor; Manufacturer: Yageo; Manufacturer Part Number: RC0603FR-0710ML; Power Rating: 100 mW; Resistance: 10 MOhms; Temperature Coefficient: 100 PPM / C; Tolerance: 1 %; Voltage Rating: 75 V; Supplier 1: Mouser; RoHS: RoHS Compliant; Category: Thick Film Resistors - SMD; Stock 1: 97109; Pricing 1: 1=0.100, 10=0.010, 100=0.003, 1000=0.002, 5000=0.002, 10000=0.001 (USD); Height: 0.45 mm; Length: 1.6 mm; Operating Temperature Range: - 55 C to + 155 C; Package / Case: 0603 (1608 metric); Packaging: Reel; Product: Thick Film Resistors General Purpose; Series: RC; Termination Style: SMD/SMT; Type: General Purpose Chip Resistor Surface Mount; Width: 0.8 mm; Brand: Yageo; Case Code - in: 0603; Case Code - mm: 1608; Product Category: 0603 SMD Chip Resistors; Standard Pack Qty: 5000; RoHS - Mouser: Y; Minimum Order Quantity: 1; Reeling: True; ComponentLink1URL: http://www.mouser.com/ds/2/447/RC0603-272842.pdf; ComponentLink1Description: http://www.mouser.com/ds/2/447/RC0603-272842.pdf; Supplier Part Number 1: 603-RC0603FR-0710ML
footprint R0603_1608 (Chip Resistor, 2-Leads, Body 1.60x0.80mm, IPC Medium Density)
pins: 1, 2

## R10M(2512/6332)_FuelSense
designator R?, comment 10M
10M Resistor; Manufacturer: Vishay; Manufacturer Part Number: CRCW251210M0FKEG; Power Rating: 1 W; Resistance: 10 MOhms; Temperature Coefficient: 100 PPM / K; Tolerance: 1 %; Voltage Rating: 500 V; Qualification: Commercial; Supplier 1: Mouser; Supplier Part Number 1: 71-CRCW2512-10M-E3; RoHS: RoHS Compliant By Exemption; Category: Thick Film Resistors - SMD; Stock 1: 3488; Pricing 1: 1=0.390, 10=0.215, 100=0.124, 1000=0.085, 2000=0.075, 10000=0.068, 24000=0.060, 50000=0.050, 100000=0.042 (USD); Features: Metal glaze on high quality ceramic; Height: 0.6 mm; Length: 6.3 mm; Operating Temperature Range: - 55 C to + 155 C; Package / Case: 2512 (6432 metric); Packaging: Reel; Product: Thick Film Resistors SMD; Series: CRCW e3; Termination Style: SMD/SMT; Width: 3.15 mm; Brand: Vishay; Case Code - in: 2512; Case Code - mm: 6432; Standard Pack Qty: 2000; RoHS - Mouser: E; Minimum Order Quantity: 1; Reeling: True; ComponentLink1URL: http://www.mouser.com/ds/2/427/dcrcwe3-109170.pdf; ComponentLink1Description: http://www.mouser.com/ds/2/427/dcrcwe3-109170.pdf
footprint R2512_6332 (Chip Resistor, 2-Leads, Body 6.25x3.15mm, IPC Medium Density)
pins: 1, 2

## R18k(0402/1005)
designator R?, comment 18k
18k Resistor; Manufacturer: Panasonic; Manufacturer Part Number: ERJ-2RKF1802X; Power Rating: 100 mW; Resistance: 18 kOhms; Temperature Coefficient: 100 PPM / C; Tolerance: 1 %; Voltage Rating: 50 V; Qualification: AEC-Q200; RoHS: RoHS Compliant By Exemption; Category: Thick Film Resistors - SMD; Height: 0.35 mm; Length: 1 mm; Operating Temperature Range: - 55 C to + 155 C; Package / Case: 0402 (1005 metric); Packaging: Reel; Product: Thick Film Resistors SMD; Series: ERJ; Termination Style: SMD/SMT; Type: Precision Thick Film Resistors SMD; Width: 0.5 mm; Brand: Panasonic; Case Code - in: 0402; Case Code - mm: 1005; Standard Pack Qty: 10000; RoHS - Mouser: E; Minimum Order Quantity: 1; Reeling: True; ComponentLink1URL: http://www.mouser.com/ds/2/315/AOA0000C86-911473.pdf; ComponentLink1Description: http://www.mouser.com/ds/2/315/AOA0000C86-911473.pdf; Supplier 1: Mouser; Supplier Part Number 1: 667-ERJ-2RKF1802X; Stock 1: 87559; Pricing 1: 1=0.100, 10=0.015, 100=0.006, 1000=0.004, 5000=0.003, 10000=0.002 (USD)
footprint R0402_1005 (Chip Resistor, 2-Leads, Body 1.00x0.50mm, IPC Medium Density)
pins: 1, 2

## R18k(0603/1608)
designator R?, comment 18k
18k Resistor; Manufacturer: Yageo; Manufacturer Part Number: RC0603FR-0718KL; Power Rating: 100 mW; Resistance: 18 kOhms; Temperature Coefficient: 100 PPM / C; Tolerance: 1 %; Voltage Rating: 75 V; Supplier 1: Mouser; Supplier Part Number 1: 603-RC0603FR-0718KL; RoHS: RoHS Compliant; Category: Thick Film Resistors - SMD; Stock 1: 55945; Pricing 1: 1=0.100, 10=0.010, 100=0.003, 1000=0.002, 5000=0.002, 10000=0.001 (USD); Height: 0.45 mm; Length: 1.6 mm; Operating Temperature Range: - 55 C to + 155 C; Package / Case: 0603 (1608 metric); Packaging: Reel; Product: Thick Film Resistors General Purpose; Series: RC; Termination Style: SMD/SMT; Type: General Purpose Chip Resistor Surface Mount; Width: 0.8 mm; Brand: Yageo; Case Code - in: 0603; Case Code - mm: 1608; Product Category: 0603 SMD Chip Resistors; Standard Pack Qty: 5000; RoHS - Mouser: Y; Minimum Order Quantity: 1; Reeling: True; ComponentLink1URL: http://www.mouser.com/ds/2/447/RC0603-272842.pdf; ComponentLink1Description: http://www.mouser.com/ds/2/447/RC0603-272842.pdf
footprint R0603_1608 (Chip Resistor, 2-Leads, Body 1.60x0.80mm, IPC Medium Density)
pins: 1, 2

## R27(0402/1005)
designator R?, comment 27R
27 Resistor; Manufacturer: Panasonic; Manufacturer Part Number: ERJ-2RKF27R0X; Power Rating: 100 mW; Resistance: 27 Ohms; Temperature Coefficient: 100 PPM / C; Tolerance: 1 %; Voltage Rating: 50 V; Qualification: AEC-Q200; Supplier 1: Mouser; Supplier Part Number 1: 667-ERJ-2RKF27R0X; RoHS: RoHS Compliant By Exemption; Category: Thick Film Resistors - SMD; Stock 1: 86276; Pricing 1: 1=0.100, 10=0.015, 100=0.006, 1000=0.004, 5000=0.003, 10000=0.002 (USD); Height: 0.35 mm; Length: 1 mm; Operating Temperature Range: - 55 C to + 155 C; Package / Case: 0402 (1005 metric); Packaging: Reel; Product: Thick Film Resistors SMD; Series: ERJ; Termination Style: SMD/SMT; Type: Precision Thick Film Resistors SMD; Width: 0.5 mm; Brand: Panasonic; Case Code - in: 0402; Case Code - mm: 1005; Standard Pack Qty: 10000; RoHS - Mouser: E; Minimum Order Quantity: 1; Reeling: True; ComponentLink1URL: http://www.mouser.com/ds/2/315/AOA0000C86-911473.pdf; ComponentLink1Description: http://www.mouser.com/ds/2/315/AOA0000C86-911473.pdf
footprint R0402_1005 (Chip Resistor, 2-Leads, Body 1.00x0.50mm, IPC Medium Density)
pins: 1, 2

## R49.9(0603/1608)
designator R?, comment 49.9
R49.9 Resistor; Manufacturer: Yageo; Manufacturer Part Number: RC0603FR-0749R9L; Power Rating: 100 mW; Resistance: 49.9 Ohms; Temperature Coefficient: 100 PPM / C; Tolerance: 1 %; Voltage Rating: 75 V; Supplier 1: Mouser; Supplier Part Number 1: 603-RC0603FR-0749R9L; RoHS: RoHS Compliant; Category: Thick Film Resistors - SMD; Stock 1: 47686; Pricing 1: 1=0.100, 10=0.010, 100=0.003, 1000=0.002, 5000=0.002, 10000=0.001 (USD); Height: 0.45 mm; Length: 1.6 mm; Operating Temperature Range: - 55 C to + 155 C; Package / Case: 0603 (1608 metric); Packaging: Reel; Product: Thick Film Resistors General Purpose; Series: RC; Termination Style: SMD/SMT; Type: General Purpose Chip Resistor Surface Mount; Width: 0.8 mm; Brand: Yageo; Case Code - in: 0603; Case Code - mm: 1608; Product Category: 0603 SMD Chip Resistors; Standard Pack Qty: 5000; RoHS - Mouser: Y; Minimum Order Quantity: 1; Reeling: True; ComponentLink1URL: http://www.mouser.com/ds/2/447/RC0603-272842.pdf; ComponentLink1Description: http://www.mouser.com/ds/2/447/RC0603-272842.pdf
footprint R0603_1608 (Chip Resistor, 2-Leads, Body 1.60x0.80mm, IPC Medium Density)
pins: 1, 2

## R51(0402/1005)
designator R?, comment 51
51 Resistor; Manufacturer: Panasonic; Manufacturer Part Number: ERJ-2RKF51R0X; Power Rating: 100 mW; Resistance: 51 Ohms; Temperature Coefficient: 100 PPM / C; Tolerance: 1 %; Voltage Rating: 50 V; Qualification: AEC-Q200; Supplier 1: Mouser; Supplier Part Number 1: 667-ERJ-2RKF51R0X; RoHS: RoHS Compliant By Exemption; Category: Thick Film Resistors - SMD; Stock 1: 122063; Pricing 1: 1=0.100, 10=0.015, 100=0.006, 1000=0.004, 5000=0.003, 10000=0.002 (USD); Height: 0.35 mm; Length: 1 mm; Operating Temperature Range: - 55 C to + 155 C; Package / Case: 0402 (1005 metric); Packaging: Reel; Product: Thick Film Resistors SMD; Series: ERJ; Termination Style: SMD/SMT; Type: Precision Thick Film Resistors SMD; Width: 0.5 mm; Brand: Panasonic; Case Code - in: 0402; Case Code - mm: 1005; Standard Pack Qty: 10000; RoHS - Mouser: E; Minimum Order Quantity: 1; Reeling: True; ComponentLink1URL: http://www.mouser.com/ds/2/315/AOA0000C86-911473.pdf; ComponentLink1Description: http://www.mouser.com/ds/2/315/AOA0000C86-911473.pdf
footprint R0402_1005 (Chip Resistor, 2-Leads, Body 1.00x0.50mm, IPC Medium Density)
pins: 1, 2

## R51(0603/1608)
designator R?, comment 51
51 Resistor; Manufacturer: Yageo; Manufacturer Part Number: RC0603FR-0751RL; Power Rating: 100 mW; Resistance: 51 Ohms; Temperature Coefficient: 100 PPM / C; Tolerance: 1 %; Voltage Rating: 75 V; Supplier 1: Mouser; Supplier Part Number 1: 603-RC0603FR-0751RL; RoHS: RoHS Compliant; Category: Thick Film Resistors - SMD; Stock 1: 96664; Pricing 1: 1=0.100, 10=0.010, 100=0.003, 1000=0.002, 5000=0.002, 10000=0.001 (USD); Height: 0.45 mm; Length: 1.6 mm; Operating Temperature Range: - 55 C to + 155 C; Package / Case: 0603 (1608 metric); Packaging: Reel; Product: Thick Film Resistors General Purpose; Series: RC; Termination Style: SMD/SMT; Type: General Purpose Chip Resistor Surface Mount; Width: 0.8 mm; Brand: Yageo; Case Code - in: 0603; Case Code - mm: 1608; Product Category: 0603 SMD Chip Resistors; Standard Pack Qty: 5000; RoHS - Mouser: Y; Minimum Order Quantity: 1; Reeling: True; ComponentLink1URL: http://www.mouser.com/ds/2/447/RC0603-272842.pdf; ComponentLink1Description: http://www.mouser.com/ds/2/447/RC0603-272842.pdf
footprint R0603_1608 (Chip Resistor, 2-Leads, Body 1.60x0.80mm, IPC Medium Density)
pins: 1, 2

## R75(0603/1608)
designator R?, comment 75
75 Resistor; Manufacturer: Yageo; Manufacturer Part Number: RC0603FR-0775RL; Power Rating: 100 mW; Resistance: 75 Ohms; Temperature Coefficient: 100 PPM / C; Tolerance: 1 %; Voltage Rating: 75 V; Supplier 1: Mouser; Supplier Part Number 1: 603-RC0603FR-0775RL; RoHS: RoHS Compliant; Category: Thick Film Resistors - SMD; Stock 1: 3441; Pricing 1: 1=0.100, 10=0.010, 100=0.003, 1000=0.002, 5000=0.002, 10000=0.001 (USD); Height: 0.45 mm; Length: 1.6 mm; Operating Temperature Range: - 55 C to + 155 C; Package / Case: 0603 (1608 metric); Packaging: Reel; Product: Thick Film Resistors General Purpose; Series: RC; Termination Style: SMD/SMT; Type: General Purpose Chip Resistor Surface Mount; Width: 0.8 mm; Brand: Yageo; Case Code - in: 0603; Case Code - mm: 1608; Product Category: 0603 SMD Chip Resistors; Standard Pack Qty: 5000; RoHS - Mouser: Y; Minimum Order Quantity: 1; Reeling: True; ComponentLink1URL: http://www.mouser.com/ds/2/447/RC0603-272842.pdf; ComponentLink1Description: http://www.mouser.com/ds/2/447/RC0603-272842.pdf
footprint R0603_1608 (Chip Resistor, 2-Leads, Body 1.60x0.80mm, IPC Medium Density)
pins: 1, 2

## R100(0603/1608)
designator R?, comment 100
100 Resistor; Manufacturer: Yageo; Manufacturer Part Number: RC0603FR-07100RL; Power Rating: 100 mW; Resistance: 100 Ohms; Temperature Coefficient: 100 PPM / C; Tolerance: 1 %; Voltage Rating: 75 V; Supplier 1: Mouser; Supplier Part Number 1: 603-RC0603FR-07100RL; RoHS: RoHS Compliant; Category: Thick Film Resistors - SMD; Stock 1: 194264; Pricing 1: 1=0.100, 10=0.010, 100=0.003, 1000=0.002, 5000=0.002, 10000=0.001 (USD); Height: 0.45 mm; Length: 1.6 mm; Operating Temperature Range: - 55 C to + 155 C; Package / Case: 0603 (1608 metric); Packaging: Reel; Product: Thick Film Resistors General Purpose; Series: RC; Termination Style: SMD/SMT; Type: General Purpose Chip Resistor Surface Mount; Width: 0.8 mm; Brand: Yageo; Case Code - in: 0603; Case Code - mm: 1608; Product Category: 0603 SMD Chip Resistors; Standard Pack Qty: 5000; RoHS - Mouser: Y; Minimum Order Quantity: 1; Reeling: True; ComponentLink1URL: http://www.mouser.com/ds/2/447/RC0603-272842.pdf; ComponentLink1Description: http://www.mouser.com/ds/2/447/RC0603-272842.pdf
footprint R0603_1608 (Chip Resistor, 2-Leads, Body 1.60x0.80mm, IPC Medium Density)
pins: 1, 2